# Altium integrated library 282856-8.IntLib: 1 symbol
Pins are listed as number, name and electrical type; pins without a type are passive.

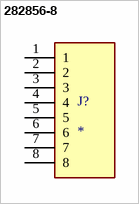
[diagram p0: symbol 282856-8]

## 282856-8
designator J?
8P TERMI-BLOK PCB MOUNT; MF: TE Connectivity; MP: 282856-8; Check_prices: https://www.snapeda.com/parts/282856-8/TE+Connectivity+AMP+Connectors/view-part/?ref=eda; Value: *; Purchase-URL: https://pricing.snapeda.com/search/part/282856-8/?ref=eda; SnapEDA_Link: https://www.snapeda.com/parts/282856-8/TE+Connectivity+AMP+Connectors/view-part/?ref=snap; EU_RoHS_Compliance: Compliant with Exemptions; Digi-Key_Part_Number: A98106-ND; Package: None
footprint TE_282856-8
pins: 1, 2, 3, 4, 5, 6, 7, 8